# EAGLE library part PINHD-7 (library m_connector)
7 Pin Header
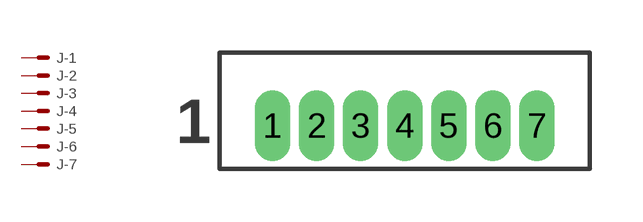
[diagram p5: symbol with the pads of MOLEX_53047-0710; footprint MOLEX_53047-0710]

Designator prefix J; gates -1=M -2=M -3=M -4=M -5=M -6=M -7=M

## PINHD-7MOLEX-PICOBLADE (MANUF: Molex; PARTNUM: 53047-0710)  [MOLEX_53047-0710]
1  -1:S  pas
2  -2:S  pas
3  -3:S  pas
4  -4:S  pas
5  -5:S  pas
6  -6:S  pas
7  -7:S  pas

## Footprint MOLEX_53047-0710 (pad centres in mm)
Molex 53047 Series, 1.25mm Pitch, 7 Conductor Molex 1.25mm pitch through hole connector. Pre tinned phosphor bronze pins, mates with 51021 series.
drill 0.5 long: 1 -3.75,0; 2 -2.5,0; 3 -1.25,0; 4 0,0; 5 1.25,0; 6 2.5,0; 7 3.75,0